# Altium schematic symbol library Lib2408.SchLib: 20 symbols
Pins are listed as number, name and electrical type; pins without a type are passive.

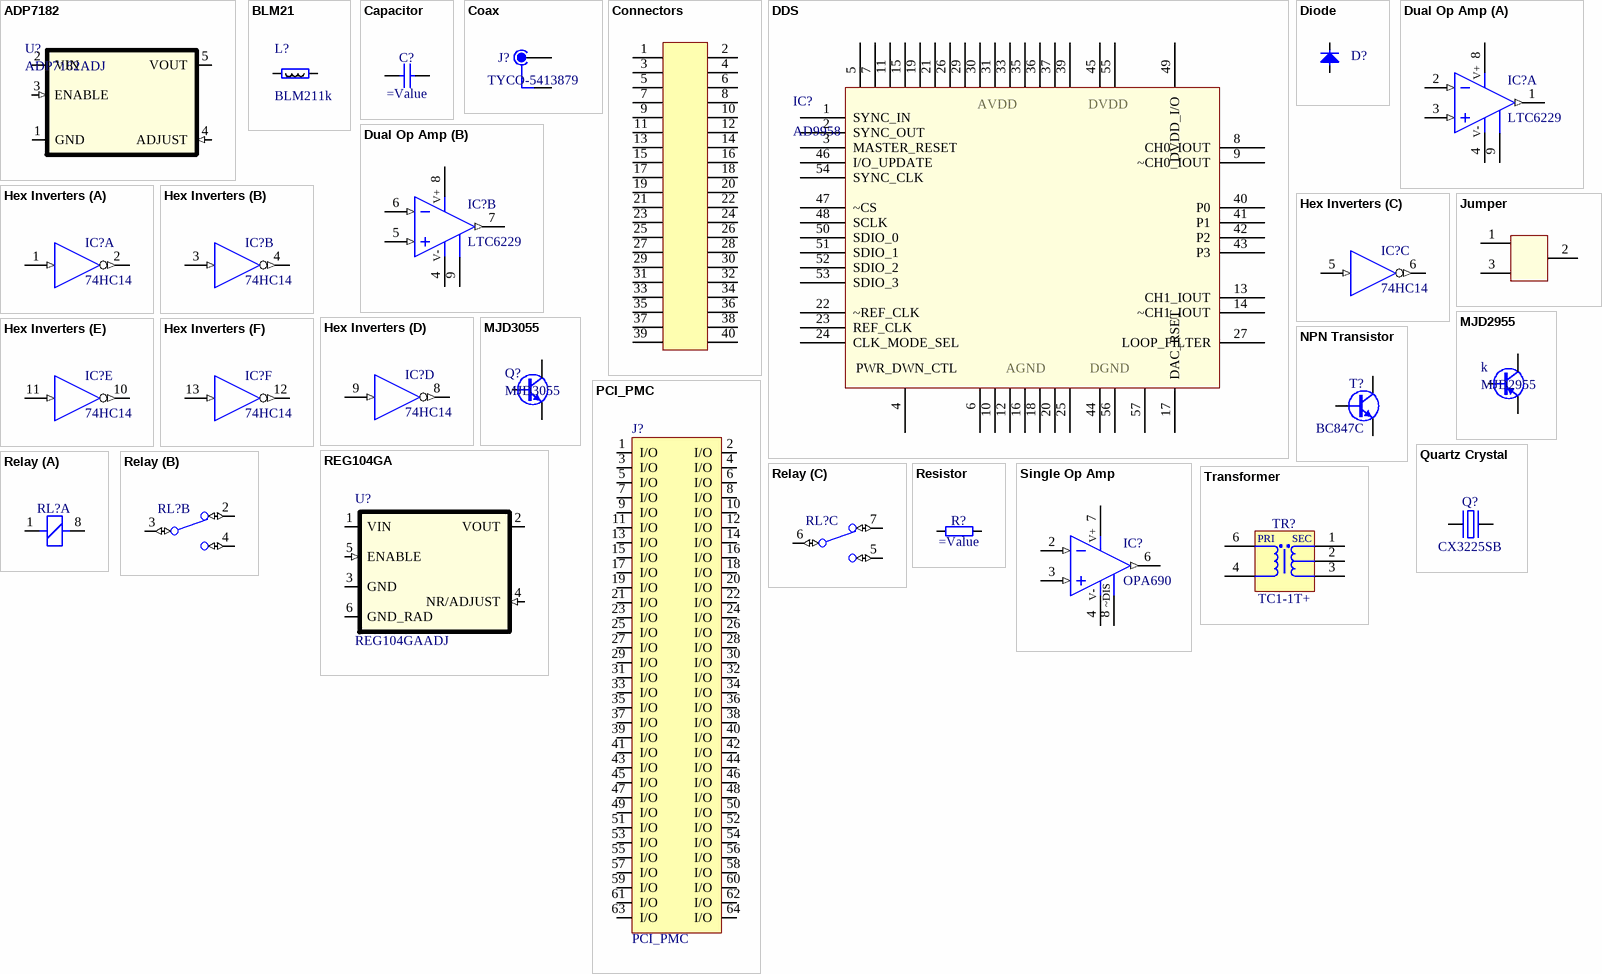
[diagram p0: symbols ADP7182 to Transformer]

## ADP7182
designator U?, comment ADP7182ADJ
Negative LDO Linear stabilizer; Vendor: Analog Devoces; Value: ADJ; Pkg: SOT23-5; SMD Solders: 5; Solder Option: RM; Name to order: ADP7182AUJZ-R7; Vref: 1V22; Price: 100; Device: ADP7182
footprint SOT23-5 (SOT, 0.95mm Pitch; 5 Pin,1.55mm W X 2.90mm L X 1.45mm H body, IPC Medium Density)
pins: 1 GND (power) "Groung", 2 VIN (power) "Vin 2.1,,16V", 3 ENABLE (in) "Enable  activ H", 4 ADJUST (in), 5 VOUT (power) "Vout"

## BLM21
designator L?, comment BLM211k
SMD Ferrite bead 0805; Vendor: Vishay; Value: 1k; Pkg: SMD0805; SMD Solders: 2; Solder Option: RM; Device: BLM21; Price: 10
footprint 0805 (Chip Resistor, EIA 0805, Metric 2012, Body 2.0x1.2mm, IPC Medium Density)
pins: 1, 2

## Capacitor
designator C?
footprint 0805 (Chip Resistor, EIA 0805, Metric 2012, Body 2.0x1.2mm, IPC Medium Density)
footprint 0603 (Chip Resistor, EIA 0603, Metric 1608, Body 1.6x0.8mm, IPC Medium Density)
pins: 1, 2

## Coax
designator J?, comment TYCO-5413879
footprint TYCO_1-5413879 (50 Ohms  BNC Elbow PCB Socket With Mounting Posts)
pins: 1, 2 hidden to GND, 2 hidden to GND, 2

## Connectors
designator J?, comment PLD40  (value not drawn)
footprint SAMTEC_MTLW-120-07-L-D-250 (40 Contacts - Pitch 2.54mm - Dual Row Through Mount Straight Header (Post Lead = 6.35mm, Tail Lead 3.05mm, Insulator 1.52mm))
pins: 1, 2, 3, 4, 5, 6, 7, 8, 9, 10, 11, 12, 13, 14, 15, 16, 17, 18, 19, 20, 21, 22, 23, 24, 25, 26, 27, 28, 29, 30, 31, 32, 33, 34, 35, 36, 37, 38, 39, 40

## DDS
designator IC?, comment AD9958
2-Channel, 500 MSPS DDS with 10-Bit DACs
footprint QFN50P800X800X80-57N-S670 (QFN,0.50mm Pitch, Square; 56 pin, 8.00mm L X 8.00mm W X 0.80mm H body (6.7mm X 6.7mm thermal tab), IPC Medium Density)
pins: 1 SYNC_IN, 2 SYNC_OUT, 3 MASTER_RESET, 4 PWR_DWN_CTL, 5, 6, 7, 8 CH0_IOUT, 9 ~CH0_IOUT, 10, 11, 12, 13 CH1_IOUT, 14 ~CH1_IOUT, 15, 16, 17 DAC_RSET, 18, 19, 20, 21, 22 ~REF_CLK, 23 REF_CLK, 24 CLK_MODE_SEL, 25, 26, 27   LOOP_FILTER, 29, 30, 31, 33, 35, 36, 37, 39, 40 P0, 41 P1, 42 P2, 43 P3, 44, 45, 46 I/O_UPDATE, 47 ~CS, 48 SCLK, 49 DVDD_I/O, 50 SDIO_0, 51 SDIO_1, 52 SDIO_2, 53 SDIO_3, 54 SYNC_CLK, 55, 56, 57
text: AVDD; DVDD; AGND; DGND

## Diode
designator D?
Vendor: CTK; Voltage: 30V; SMD Solders: 2; Solder Option: RM; Pkg: SOD523; Device: RB521S-30; Price: 5; Name to order: RB521S-30
footprint SODFL1608X65N (Ultra Small Outline Diode Flat Lead (SOD-523), Body; 1.2mm L X 0.8mm W X 0.65mm H, IPC Medium Density)
pins: 1 C, 2 A

## Dual Op Amp
designator IC?, comment LTC6229
0.88nV/√Hz 730MHz, 500V/µs, Low Distortion Rail-to-Rail Output Op Amps with Shutdown
footprint SOP65P490X110-9N-R168X188 (SOP, 0.65mm Pitch; 8 Pin, 3.00mm W X 3.00mm L X 1.10mm H body, (w/Thermal Tab 1.68X 1.88mm), IPC Medium Density)
pins on every part: 4 V- (power), 8 V+ (power)
part A pins: 1 OUT (out), 2 IN- (in), 3 IN+ (in), 9 (power)
part B pins: 5 IN+ (in), 6 IN- (in), 7 OUT (out), 9 (power)
1 alternate drawing of the same symbol

## Hex Inverters
designator IC?, comment 74HC14
6 HEX inverters with Schmitt trigger inputs
footprint SOIC127P600X175-14N (SOIC 14, Pitch 1.27mm - Body 4x8.75mm, IPC Medium Density)
pins on every part: 7 GND (power) hidden to GND, 14 VCC (power) hidden to +5
part A pins: 1 IN (in), 2 OUT (out)
part B pins: 3 IN (in), 4 OUT (out)
part C pins: 5 IN (in), 6 OUT (out)
part D pins: 8 OUT (out), 9 IN (in)
part E pins: 10 OUT (out), 11 IN (in)
part F pins: 12 OUT (out), 13 IN (in)

## Jumper
designator *  (value not drawn)
0805
footprint Jumper (Jumper, SMD)
pins: 1, 2, 3

## MJD2955
designator k
PNP транзистор; Vendor: ON Semiconductor; Pkg: DPAK; SMD Solders: 3; Solder Option: RM; Name to order: MJD29G55; Voltage: -60V; Price: 100; Device: MJD2955
footprint DPAK (TO-252AA DPAK TO, 2.28mm pitch; 2 pin,9.90mm L X 6.56mm W X 2.38mm H body, IPC Medium Density)
pins: 1 B, 2 E, 3 C

## MJD3055
designator Q?
NPN транзистор; Vendor: ON Semiconductor; Pkg: DPAK; SMD Solders: 3; Solder Option: RM; Name to order: MJD3055G; Voltage: 60V; Price: 100; Device: MJD3055
footprint DPAK (TO-252AA DPAK TO, 2.28mm pitch; 2 pin,9.90mm L X 6.56mm W X 2.38mm H body, IPC Medium Density)
pins: 1 B, 2 E, 3 C

## NPN Transistor
designator T?, comment BC847C
NPN
footprint SOT95P230X110-3N (SOT23, 3 pin, Pitch 0.95mm - 1.3mm W X 2.9mm L X 1.1mm H, IPC Medium Density)
pins: 1 B, 2 E, 3 C

## PCI_PMC
designator J?
PCI Mezzanine Connector; IEEE 1386 Mezzanine board; Manufactuer: TE Connectivity; PartField: 120527-1; SolderOption: 2; Pkg: PMC Male (IEEE 1386); Value: PCI_PMC; Vendor: TE Connectivity
footprint TYCO_120527-1 (1mm Centerline, FH (IEEE 1386) Surface Mount, Stacking Board-to-Board Male Connectors)
pins: 1 I/O (io), 2 I/O (io), 3 I/O (io), 4 I/O (io), 5 I/O (io), 6 I/O (io), 7 I/O (io), 8 I/O (io), 9 I/O (io), 10 I/O (io), 11 I/O (io), 12 I/O (io), 13 I/O (io), 14 I/O (io), 15 I/O (io), 16 I/O (io), 17 I/O (io), 18 I/O (io), 19 I/O (io), 20 I/O (io), 21 I/O (io), 22 I/O (io), 23 I/O (io), 24 I/O (io), 25 I/O (io), 26 I/O (io), 27 I/O (io), 28 I/O (io), 29 I/O (io), 30 I/O (io), 31 I/O (io), 32 I/O (io), 33 I/O (io), 34 I/O (io), 35 I/O (io), 36 I/O (io), 37 I/O (io), 38 I/O (io), 39 I/O (io), 40 I/O (io), 41 I/O (io), 42 I/O (io), 43 I/O (io), 44 I/O (io), 45 I/O (io), 46 I/O (io), 47 I/O (io), 48 I/O (io), 49 I/O (io), 50 I/O (io), 51 I/O (io), 52 I/O (io), 53 I/O (io), 54 I/O (io), 55 I/O (io), 56 I/O (io), 57 I/O (io), 58 I/O (io), 59 I/O (io), 60 I/O (io), 61 I/O (io), 62 I/O (io), 63 I/O (io), 64 I/O (io)

## Quartz Crystal
designator Q?, comment CX3225SB
25 MHz
footprint XTAL_KYOCERA_CX3225SB (SMD Crystal Kyocera, 4 Pin, 3.2mm L X 2.5mm W X 0.6mm H)
pins: 1 OSC1, 2 GND hidden to GND, 3 OSC2, 4 GND hidden to GND

## REG104GA
designator U?, comment REG104GAADJ
Positive LDO Linear stabilizer; Vendor: Texas Instruments; Value: ADJ; SMD Solders: 6; Solder Option: RM; TC: 70ppm/C; Tolerance: +-2% Max; Pkg: SOT223-6; Name to order: REG104GA-A; Vref: 1V295; Price: 1000; Device: REG104GA
footprint SOT223_6-127
pins: 1 VIN (power) "Vin 2.1,,16V", 2 VOUT (power) "Vout", 3 GND (power) "Groung", 4 NR/ADJUST (in), 5 ENABLE (in) "Enable  activ H", 6 GND_RAD (power) "Radiator"

## Relay
designator RL?, comment G6J-2P_Y  (value not drawn)
Ultra-compact and Slim DPDT Relay
footprint G6J-2P-Y (THT Relay, Body 10.9mm x 6mm, OMRON_G6J-2P)
part A pins: 1, 8
part B pins: 2 NC (io), 3 C (io), 4 NO (io)
part C pins: 5 NO (io), 6 C (io), 7 NC (io)

## Resistor
designator R?
footprint 0805 (Chip Resistor, EIA 0805, Metric 2012, Body 2.0x1.2mm, IPC Medium Density)
footprint 0603 (Chip Resistor, EIA 0603, Metric 1608, Body 1.6x0.8mm, IPC Medium Density)
pins: 1, 2

## Single Op Amp
designator IC?, comment OPA690
Wideband, Voltage-Feedback Operational Amplifier With Disable
footprint SOIC127P600X175-8N (SOIC 8, Pitch 1.27mm - Body 4x5mm, IPC Medium Density)
pins: 2 IN- (in), 3 IN+ (in), 4 V- (power), 6 OUT (out), 7 V+ (power), 8 ~DIS (power)
1 alternate drawing of the same symbol

## Transformer
designator TR?, comment TC1-1T+
50 Ohms 0.4 to 500MHz RF Transformer
footprint AT224-1 (MINI-CIRCUITS RF Transformer, Case AT224-1 - Body 3.81X3.81mm)
pins: 1 SDOT, 2 NC, 3 S, 4 P, 6 PDOT
text: PRI; SEC